# EAGLE library part CON-SUBD-9 (library mylib)
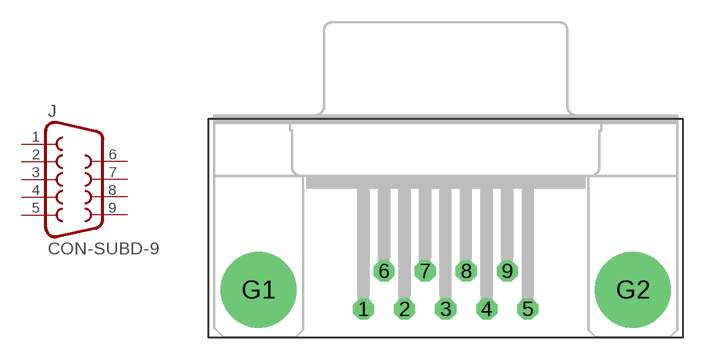
[diagram p23: symbol with the pads of CON-SUBD-9; footprint CON-SUBD-9]

Designator prefix J

## CON-SUBD-9  [CON-SUBD-9]
1  1  pas
2  2  pas
3  3  pas
4  4  pas
5  5  pas
6  6  pas
7  7  pas
8  8  pas
9  9  pas

## Footprint CON-SUBD-9 (pad centres in mm)
drill 0.9 octagon: 1 -5.486,-6.35; 2 -2.743,-6.35; 3 0,-6.35; 4 2.743,-6.35; 5 5.486,-6.35; 6 -4.115,-3.81; 7 -1.372,-3.81; 8 1.372,-3.81; 9 4.115,-3.81
drill 3.302 pad 5.08: G1 -12.522,-5.08; G2 12.522,-5.08